# Altium schematic symbol library lib_SCH.SchLib: 57 symbols
Pins are listed as number, name and electrical type; pins without a type are passive.

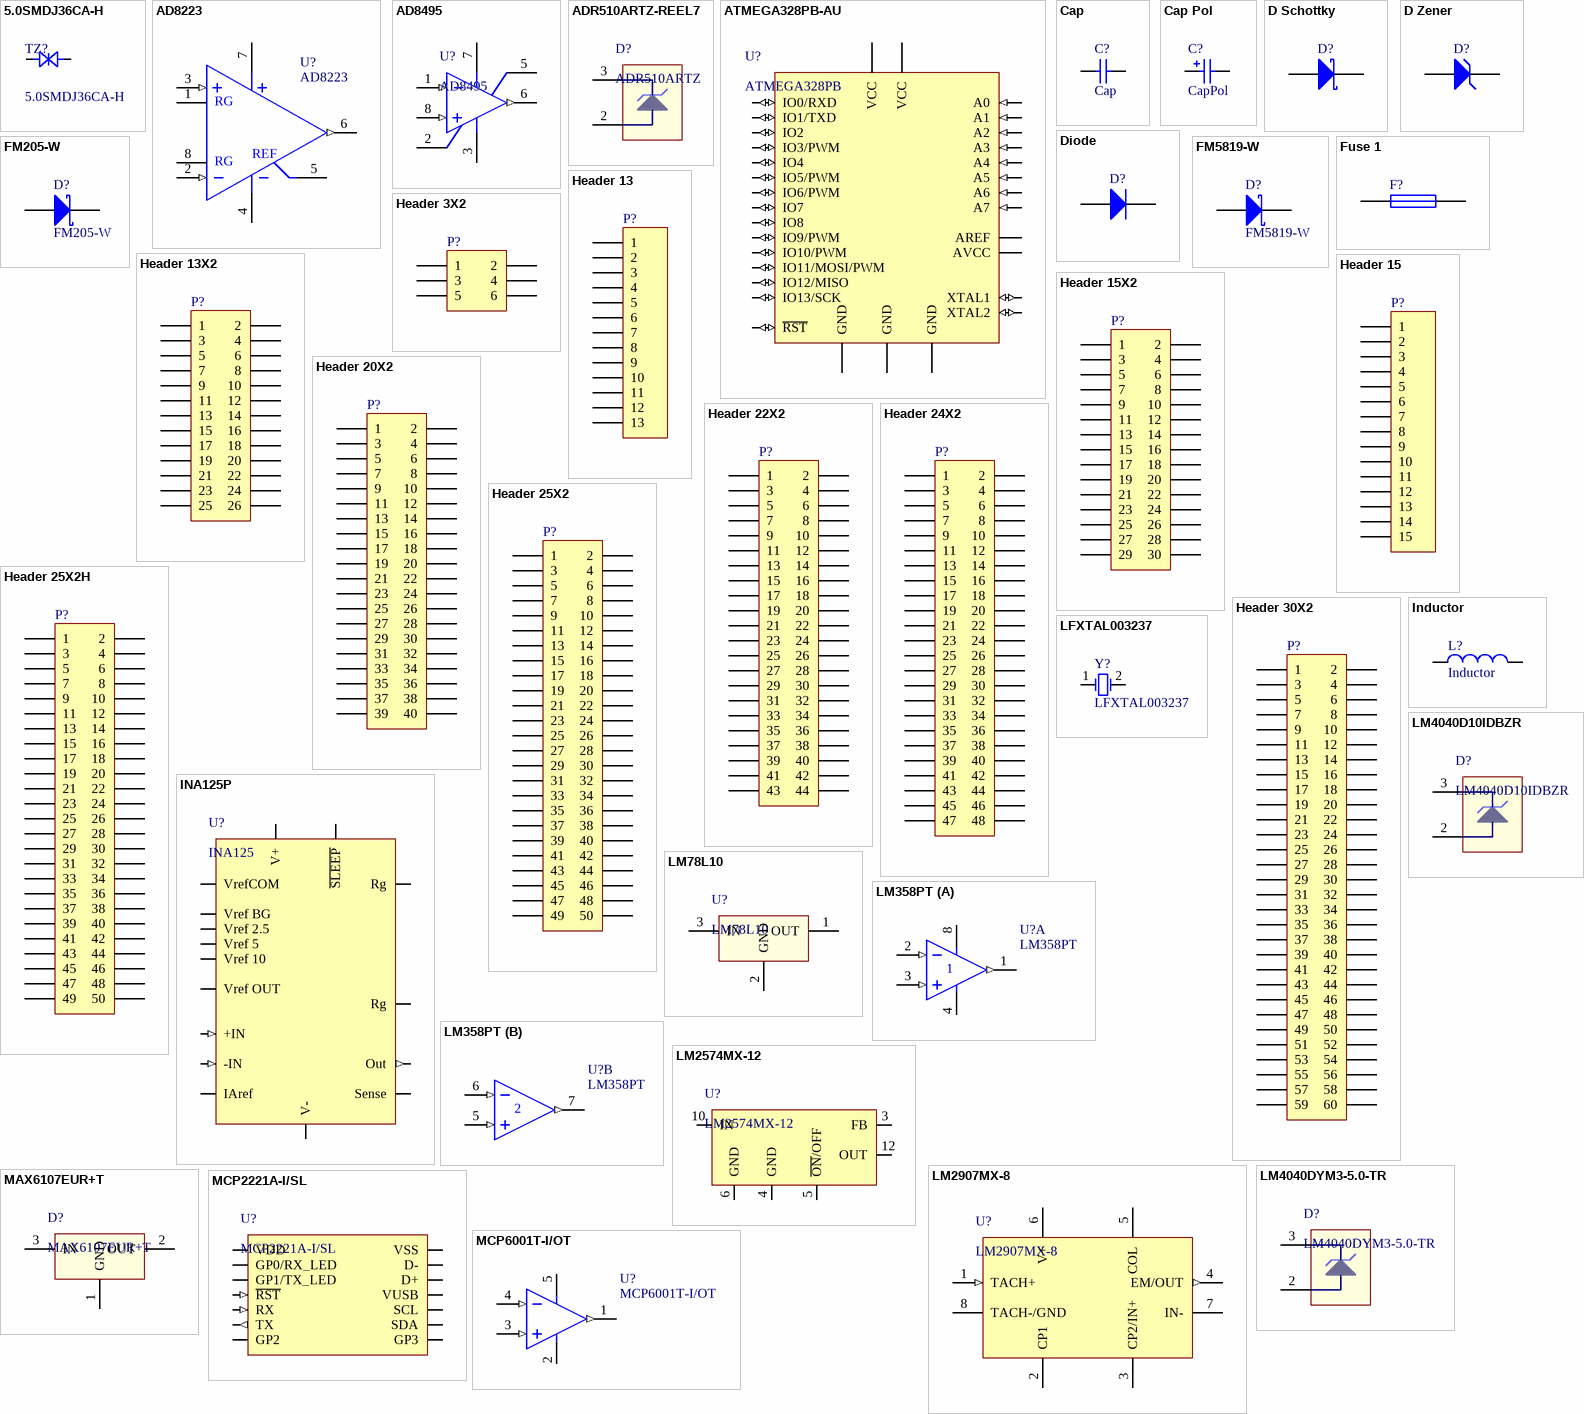
[diagram p0: symbols 5.0SMDJ36CA-H to MCP6001T-I/OT]

## 5.0SMDJ36CA-H
designator TZ?
ESD Suppressors / TVS Diodes 36V 5kW BIDIR
footprint DO-214AB; pin to pad 1>A 2>C
pins: 1 A, 2 K

## AD8223
designator U?
Precision Instrumentation Amplifier
footprint SO8_M (SOIC, 8-Leads, Body 4.9x3.9mm, Pitch 1.27mm, IPC Low Density)
pins: 1 RG, 2 IN- (in), 3 IN+ (in), 4 -Vs (power), 5 REF, 6 OUT (out), 7 +Vs (power), 8 RG

## AD8495
designator U?
Precision Type K Thermocouple Amplifier with Cold Junction Compensation
footprint RM_8
pins: 1 IN- (in), 2 REF, 3 V- (power), 5 SENSE, 6 OUT (out), 7 V+ (power), 8 IN+ (in)

## ADR510ARTZ-REEL7
designator D?, comment ADR510ARTZ
Voltage References 1.0V Prec Shunt Low Noise
footprint SOT23_M (SOT23, 3-Leads, Body 2.9x1.3mm, Pitch 0.95mm, Lead Span 2.3mm - Reverse Pinning, IPC Low Density)
pins: 2 A, 3 K

## ATMEGA328PB-AU
designator U?, comment ATMEGA328PB
8-bit AVR® RISC-based microcontroller (MCU) with picoPower® technology.
footprint QFP80P900X900X120-32N
pins: 1 IO3/PWM (io), 2 IO4 (io), 3 GND (power), 4 VCC (power), 5 GND (power), 6 VCC (power), 7 XTAL1 (io), 8 XTAL2 (io), 9 IO5/PWM (io), 10 IO6/PWM (io), 11 IO7 (io), 12 IO8 (io), 13 IO9/PWM (io), 14 IO10/PWM (io), 15 IO11/MOSI/PWM (io), 16 IO12/MISO (io), 17 IO13/SCK (io), 18 AVCC (power), 19 A6 (in), 20 AREF (power), 21 GND (power), 22 A7 (in), 23 A0 (in), 24 A1 (in), 25 A2 (in), 26 A3 (in), 27 A4 (in), 28 A5 (in), 29 ~{RST} (io), 30 IO0/RXD (io), 31 IO1/TXD (io), 32 IO2 (io)

## Cap
designator C?
Capacitor
footprint 1608[0603] (Chip Capacitor, Body 1.6x0.8mm, IPC High Density)
footprint 0402 (Chip Capacitor, Body 1.0x0.5mm, IPC High Density)
footprint C0805 (Chip Capacitor, Body 2.0x1.3mm, IPC High Density)
pins: 1, 2

## Cap Pol
designator C?, comment CapPol
Polarized Capacitor (Surface Mount)
footprint WCAP-ASLI_10x10.5 (Aluminium Electrolytic V-Chip SMT Capacitors, §¶10x10.5mm)
footprint WCAP-ASLI_6.3x5.5 (Aluminium Electrolytic V-Chip SMT Capacitors, §¶6.3x5.5mm)
footprint WCAP-ASLI_6.3x7.7 (Aluminium Electrolytic V-Chip SMT Capacitors, §¶6.3x7.7mm)
footprint WCAP-ASLI_12.5x14 (Aluminium Electrolytic V-Chip SMT Capacitors, §¶12.5x14mm)
footprint WCAP-ASLI_16x17 (Aluminium Electrolytic V-Chip SMT Capacitors, §¶16x17mm)
footprint WCAP-ASLI_6.3x6.1 (Aluminium Electrolytic V-Chip SMT Capacitors, §¶6.3x6.1mm)
footprint WCAP-ASLI_8x6.5 (Aluminium Electrolytic V-Chip SMT Capacitors, §¶8x6.5mm)
footprint WCAP-ASLI_8x10.5 (Aluminium Electrolytic V-Chip SMT Capacitors, §¶8x10.5mm)
footprint WCAP-ASLI_12.5x14 (Aluminium Electrolytic V-Chip SMT Capacitors, §¶12.5x14mm)
footprint WCAP-ASLI_16x17 (Aluminium Electrolytic V-Chip SMT Capacitors, §¶16x17mm)
pins: 1, 2
1 alternate drawing of the same symbol

## D Schottky
designator D?
Schottky Diode; Published: 8-Jun-2000; LatestRevisionDate: 17-Jul-2002; LatestRevisionNote: Re-released for DXP Platform.; PackageReference: SMB; Publisher: Altium Limited; PackageDescription: DO-214-AA/SMB; 2 C-Bend Leads; Body 5.3 x 3.6 mm, inc. leads (LxW); Code_JEDEC: DO-214-AA
footprint SMB (DO-214-AA/SMB; 2 C-Bend Leads; Body 5.3 x 3.6 mm, inc. leads (LxW))
simulation model SKYDIODE (Diode)
signal-integrity model D Schottky
footprint SOD523; pin to pad 1>2 2>1
pins: 1 A, 2 K

## D Zener
designator D?
Zener Diode; Published: 8-Jun-2000; LatestRevisionDate: 17-Jul-2002; LatestRevisionNote: Re-released for DXP Platform.; PackageReference: DIODE-0.7; Publisher: Altium Limited; PackageDescription: Diode, Thru-Hole; 2 Leads; 0.7 in Pin Spacing
footprint DIODE-0.7 (Diode, Thru-Hole; 2 Leads; 0.7 in Pin Spacing)
simulation model ZENER (Diode)
signal-integrity model D Zener
pins: 1 A, 2 K

## Diode
designator D?
Default Diode; Published: 8-Jun-2000; LatestRevisionDate: 17-Jul-2002; LatestRevisionNote: Re-released for DXP Platform.; PackageVersion: Sep-1996; PackageReference: SMC; Publisher: Altium Limited; PackageDescription: DO-214-AB/SMC; 2 C-Bend Leads; Body 7.9 x 5.9 mm, inc. leads (LxW); Code_JEDEC: DO-214-AB
footprint SMC (DO-214-AB/SMC; 2 C-Bend Leads; Body 7.9 x 5.9 mm, inc. leads (LxW))
simulation model DIODE (Diode)
signal-integrity model Diode
pins: 1 A, 2 K

## FM205-W
designator D?
Rectifiers 2A 600V SMB
footprint DO-214AA; pin to pad 1>C 2>A
pins: 1 C, 2 A

## FM5819-W
designator D?
Schottky Diodes & Rectifiers Vr/40V Io/1A T/R
footprint DO-214AC; pin to pad 1>A 2>C
pins: 1 A, 2 K

## Fuse 1
designator F?
Fuse; Published: 8-Jun-2000; LatestRevisionDate: 17-Jul-2002; LatestRevisionNote: Re-released for DXP Platform.; PackageReference: PIN-W2/E2.8; Publisher: Altium Limited; PackageDescription: Thru-Hole; 2 Leads
footprint PIN-W2/E2.8 (Thru-Hole; 2 Leads)
simulation model FUSE (Spice Subcircuit)
pins: 1, 2

## Header 3X2
designator P?
Header, 3-Pin, Dual row; LatestRevisionDate: 17-Jul-2002; LatestRevisionNote: Re-released for DXP Platform.; Publisher: Altium Limited
footprint HDR2X3 (Connector; Header; 3x2 Position)
signal-integrity model Connector
pins: 1, 2, 3, 4, 5, 6

## Header 13
designator P?
Header, 13-Pin; LatestRevisionDate: 17-Jul-2002; LatestRevisionNote: Re-released for DXP Platform.; Publisher: Altium Limited
footprint HDR1X13 (Connector; Header; 13 Position)
signal-integrity model Connector
pins: 1, 2, 3, 4, 5, 6, 7, 8, 9, 10, 11, 12, 13

## Header 13X2
designator P?
Header, 13-Pin, Dual row; LatestRevisionDate: 17-Jul-2002; LatestRevisionNote: Re-released for DXP Platform.; Publisher: Altium Limited
footprint HDR2X13 (Connector; Header; 13x2 Position)
signal-integrity model Connector
pins: 1, 2, 3, 4, 5, 6, 7, 8, 9, 10, 11, 12, 13, 14, 15, 16, 17, 18, 19, 20, 21, 22, 23, 24, 25, 26

## Header 15
designator P?
Header, 15-Pin; LatestRevisionDate: 17-Jul-2002; LatestRevisionNote: Re-released for DXP Platform.; Publisher: Altium Limited
footprint HDR1X15 (Connector; Header; 15 Position)
signal-integrity model Connector
pins: 1, 2, 3, 4, 5, 6, 7, 8, 9, 10, 11, 12, 13, 14, 15

## Header 15X2
designator P?
Header, 15-Pin, Dual row; LatestRevisionDate: 17-Jul-2002; LatestRevisionNote: Re-released for DXP Platform.; Publisher: Altium Limited
footprint HDR2X15 (Connector; Header; 15x2 Position)
signal-integrity model Connector
pins: 1, 2, 3, 4, 5, 6, 7, 8, 9, 10, 11, 12, 13, 14, 15, 16, 17, 18, 19, 20, 21, 22, 23, 24, 25, 26, 27, 28, 29, 30

## Header 20X2
designator P?
Header, 20-Pin, Dual row; LatestRevisionDate: 17-Jul-2002; LatestRevisionNote: Re-released for DXP Platform.; Publisher: Altium Limited
footprint HDR2X20 (Connector; Header; 20x2 Position)
signal-integrity model Connector
pins: 1, 2, 3, 4, 5, 6, 7, 8, 9, 10, 11, 12, 13, 14, 15, 16, 17, 18, 19, 20, 21, 22, 23, 24, 25, 26, 27, 28, 29, 30, 31, 32, 33, 34, 35, 36, 37, 38, 39, 40

## Header 22X2
designator P?
Header, 22-Pin, Dual row; LatestRevisionDate: 17-Jul-2002; LatestRevisionNote: Re-released for DXP Platform.; Publisher: Altium Limited
footprint HDR2X22 (Connector; Header; 22x2 Position)
signal-integrity model Connector
pins: 1, 2, 3, 4, 5, 6, 7, 8, 9, 10, 11, 12, 13, 14, 15, 16, 17, 18, 19, 20, 21, 22, 23, 24, 25, 26, 27, 28, 29, 30, 31, 32, 33, 34, 35, 36, 37, 38, 39, 40, 41, 42, 43, 44

## Header 24X2
designator P?
Header, 24-Pin, Dual row; LatestRevisionDate: 17-Jul-2002; LatestRevisionNote: Re-released for DXP Platform.; Publisher: Altium Limited
footprint HDR2X24 (Connector; Header; 24x2 Position)
signal-integrity model Connector
pins: 1, 2, 3, 4, 5, 6, 7, 8, 9, 10, 11, 12, 13, 14, 15, 16, 17, 18, 19, 20, 21, 22, 23, 24, 25, 26, 27, 28, 29, 30, 31, 32, 33, 34, 35, 36, 37, 38, 39, 40, 41, 42, 43, 44, 45, 46, 47, 48

## Header 25X2
designator P?
Header, 25-Pin, Dual row; LatestRevisionDate: 17-Jul-2002; LatestRevisionNote: Re-released for DXP Platform.; Publisher: Altium Limited
footprint HDR2X25 (Connector; Header; 25x2 Position)
signal-integrity model Connector
pins: 1, 2, 3, 4, 5, 6, 7, 8, 9, 10, 11, 12, 13, 14, 15, 16, 17, 18, 19, 20, 21, 22, 23, 24, 25, 26, 27, 28, 29, 30, 31, 32, 33, 34, 35, 36, 37, 38, 39, 40, 41, 42, 43, 44, 45, 46, 47, 48, 49, 50

## Header 25X2H
designator P?
Header, 25-Pin, Dual row, Right Angle; LatestRevisionDate: 17-Jul-2002; LatestRevisionNote: Re-released for DXP Platform.; Publisher: Altium Limited
footprint HDR2X25H (Connector; Header; 25x2 Position; Right Angle)
signal-integrity model Connector
pins: 1, 2, 3, 4, 5, 6, 7, 8, 9, 10, 11, 12, 13, 14, 15, 16, 17, 18, 19, 20, 21, 22, 23, 24, 25, 26, 27, 28, 29, 30, 31, 32, 33, 34, 35, 36, 37, 38, 39, 40, 41, 42, 43, 44, 45, 46, 47, 48, 49, 50

## Header 30X2
designator P?
Header, 30-Pin, Dual row; LatestRevisionDate: 17-Jul-2002; LatestRevisionNote: Re-released for DXP Platform.; Publisher: Altium Limited
footprint HDR2X30 (Connector; Header; 30x2 Position)
signal-integrity model Connector
pins: 1, 2, 3, 4, 5, 6, 7, 8, 9, 10, 11, 12, 13, 14, 15, 16, 17, 18, 19, 20, 21, 22, 23, 24, 25, 26, 27, 28, 29, 30, 31, 32, 33, 34, 35, 36, 37, 38, 39, 40, 41, 42, 43, 44, 45, 46, 47, 48, 49, 50, 51, 52, 53, 54, 55, 56, 57, 58, 59, 60

## INA125P
designator U?, comment INA125
INSTRUMENTATION AMPLIFIER With Precision Voltage Reference
footprint DIP-16 (DIP; 16 Leads; Row Spacing 7.62 mm; Pitch 2.54 mm)
pins: 1 V+ (power), 2 ~{SLEEP}, 3 V- (power), 4 Vref OUT, 5 IAref, 6 +IN (in), 7 -IN (in), 8 Rg, 9 Rg, 10 Out (out), 11 Sense, 12 VrefCOM, 13 Vref BG, 14 Vref 2.5, 15 Vref 5, 16 Vref 10

## Inductor
designator L?
Chip Inductor
footprint 6-0805_M (Chip Resistor, Body 2.0x1.2mm, IPC Low Density)
footprint SDE0805A (SMT Inductor)
footprint PF0382NL (Unshielded Drum Core - PF0382NL Series)
pins: 1, 2

## LFXTAL003237
designator Y?
Crystals 16.0MHz 13.4 x 4.9 x 4.3mm
footprint HC49/4HSMX
pins: 1 OSC1, 2 OSC2

## LM78L10
designator U?
3-TERMINAL 0.1A POSITIVE VOLTAGE REGULATOR
footprint TO-92A (TO, Flat Index; 3 In-Line, Axial Leads; Body Dia. 4.5mm; Leads 0.51 x 0.48 mm (max))
footprint SOT89M (SOT89, 3-Leads, Body 4.5x2.4 mm, Pitch 1.5mm, Lead Span 4.1mm, IPC Low Density)
pins: 1 OUT, 2 GND (power), 3 IN (power)

## LM358PT
designator U?
Operational Amplifiers - Op Amps Dual Low Power
footprint TSOP-8
part A pins: 1 OUT (out), 2 IN- (in), 3 IN+ (in), 4 Vs-, 8 Vs+
part B pins: 5 IN+ (in), 6 IN- (in), 7 OUT (out)

## LM2574MX-12
designator U?
Switching Voltage Regulators 0.5A SD VTG Reg
footprint SOIC14_N
pins: 3 FB, 4 GND (power), 5 ~{ON}/OFF (power), 6 GND (power), 10 IN (power), 12 OUT (power)

## LM2907MX-8
designator U?
Voltage to Frequency & Frequency to Voltage Frequency to Voltage Converter
footprint SO8_M (SOIC, 8-Leads, Body 4.9x3.9mm, Pitch 1.27mm, IPC Low Density)
pins: 1 TACH+ (in), 2 CP1, 3 CP2/IN+, 4 EM/OUT (out), 5 COL, 6 V+ (power), 7 IN-, 8 TACH-/GND (power)

## LM4040D10IDBZR
designator D?
Voltage References 10-V Prec Micropower Shunt 1% accuracy
footprint SOT23_M (SOT23, 3-Leads, Body 2.9x1.3mm, Pitch 0.95mm, Lead Span 2.3mm - Reverse Pinning, IPC Low Density)
pins: 1 hidden to GND, 2 A, 3 K

## LM4040DYM3-5.0-TR
designator D?
5V Precision Micropower Shunt Voltage Reference
footprint SOT23_M (SOT23, 3-Leads, Body 2.9x1.3mm, Pitch 0.95mm, Lead Span 2.3mm - Reverse Pinning, IPC Low Density)
pins: 1 hidden to GND, 2 A, 3 K

## MAX6107EUR+T
designator D?
4V5 Voltage References uPower Low-Dropout Voltage Ref
footprint SOT23_M (SOT23, 3-Leads, Body 2.9x1.3mm, Pitch 0.95mm, Lead Span 2.3mm - Reverse Pinning, IPC Low Density)
pins: 1 GND (power), 2 OUT, 3 IN (power)

## MCP2221A-I/SL
designator U?
USB Interface IC USB 2.0 to I2C Converter with GPIO
footprint SOIC14_N
pins: 1 VDD (power), 2 GP0/RX_LED (io), 3 GP1/TX_LED (io), 4 ~{RST} (in), 5 RX (in), 6 TX (out), 7 GP2 (io), 8 GP3 (io), 9 SDA (io), 10 SCL (io), 11 VUSB (power), 12 D- (io), 13 D+ (io), 14 VSS (power)

## MCP6001T-I/OT
designator U?
Operational Amplifiers - Op Amps Single 1.8V 1MHz
footprint SOT23-5 (SOT-23/SC-74A; 5 Leads; Body 3.1 x 3 mm, inc. leads (LxW max))
pins: 1 Out (out), 2 V- (power), 3 IN+ (in), 4 IN- (in), 5 V+ (power)

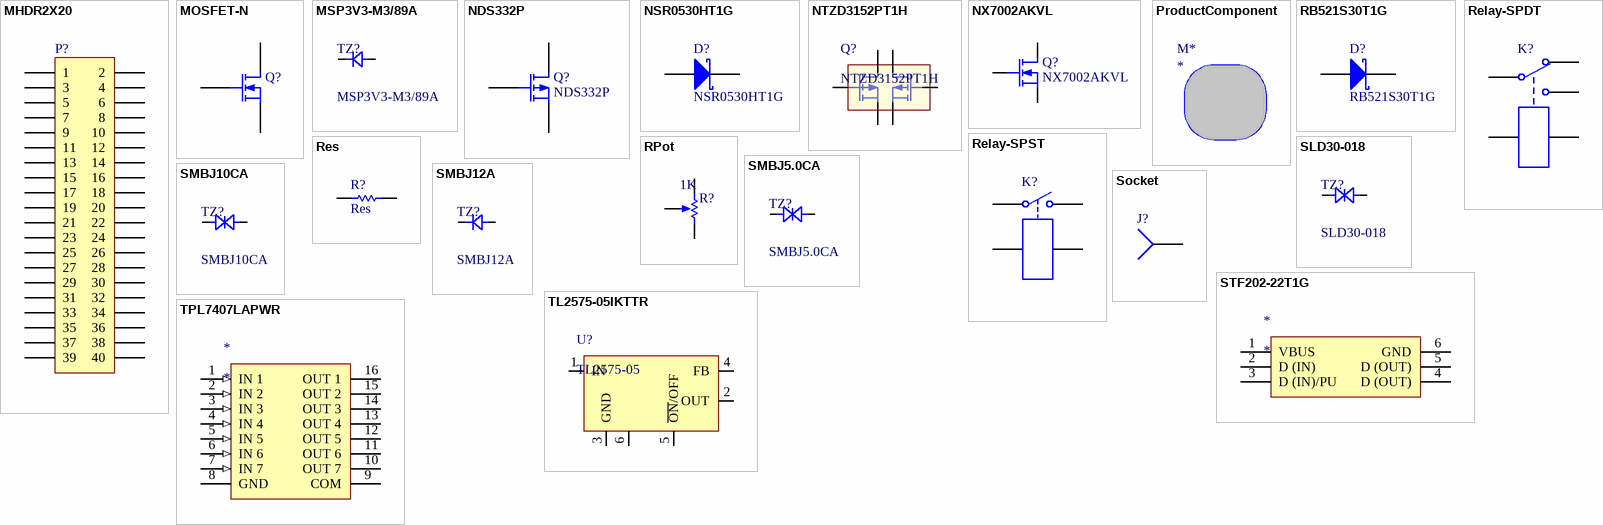
[diagram p1: symbols MHDR2X20 to TPL7407LAPWR]

## MHDR2X20
designator P?
Header, 20-Pin, Dual row; LatestRevisionDate: 17-Jul-2002; LatestRevisionNote: Re-released for DXP Platform.; Publisher: Altium Limited
footprint MHDR2X20 (Connector; Header; 20x2 Position)
signal-integrity model Connector
pins: 1, 2, 3, 4, 5, 6, 7, 8, 9, 10, 11, 12, 13, 14, 15, 16, 17, 18, 19, 20, 21, 22, 23, 24, 25, 26, 27, 28, 29, 30, 31, 32, 33, 34, 35, 36, 37, 38, 39, 40

## MOSFET-N
designator Q?
N-Channel MOSFET; Published: 8-Jun-2000; LatestRevisionDate: 17-Jul-2002; LatestRevisionNote: Re-released for DXP Platform.; PackageVersion: 1995/1996; PackageReference: E3; Publisher: Altium Limited; PackageDescription: TO, Flat Index; 3 In-Line, Axial Leads; Body Dia. 4.6mm; Lead Dia. 0.5 mm (max)
footprint E3 (TO, Flat Index; 3 In-Line, Axial Leads; Body Dia. 4.6mm; Lead Dia. 0.5 mm (max))
simulation model NMOS (MOSFET-N)
pins: 1 D, 2 G, 3 S

## MSP3V3-M3/89A
designator TZ?
ESD Suppressors / TVS Diodes 100W 3.3V Unidirect
footprint DO-219AD; pin to pad 1>A 2>C
pins: 1 A, 2 C

## NDS332P
designator Q?
P-Channel Logic Level Enhancement MOSFET
footprint SOT23_M (SOT23, 3-Leads, Body 2.9x1.3mm, Pitch 0.95mm, Lead Span 2.3mm - Reverse Pinning, IPC Low Density)
pins: 1 D, 2 S, 3 G

## NSR0530HT1G
designator D?
Schottky Diodes & Rectifiers 0.5 A 30 V SOD-323 S
footprint SOD-323; pin to pad 1>A 2>C
pins: 1 A, 2 K

## NTZD3152PT1H
designator Q?
−20 V, −430 mA, Dual P−Channel with ESD Protection, SOT−563
footprint SOT23-6_M (SOT23, 6-Leads, Body 2.9x1.6mm, Pitch 0.95mm, Lead Span 2.7mm, IPC Low Density)
pins: 1 S1, 2 G1, 3 D2, 4 S2, 5 G2, 6 D1

## NX7002AKVL
designator Q?
Small Signal MOSFET 60 V, 310 mA, Single, N−Channel, SOT−23
footprint SOT23_M (SOT23, 3-Leads, Body 2.9x1.3mm, Pitch 0.95mm, Lead Span 2.3mm - Reverse Pinning, IPC Low Density)
pins: 1 G, 2 S, 3 D

## ProductComponent
designator M*
ClassName: *; PartNumber: *; Manufacturer: *; Supplier: *

## RB521S30T1G
designator D?
Schottky Diodes & Rectifiers 30V 200mW Single
footprint SOD-523; pin to pad 1>2 2>1
pins: 1 A, 2 K

## Relay-SPDT
designator K?
Single-Pole Dual-Throw Relay; Published: 24-Mar-1999; LatestRevisionDate: 17-Jul-2002; LatestRevisionNote: Re-released for DXP Platform.; PackageReference: MODULE5B; Publisher: Altium Limited
footprint MODULE5B (DIP; 5 Round Pins; Row Space 15.24 mm; Pitch 2.54 mm)
simulation model SPDTRELAY (Spice Subcircuit)
pins: 1, 2, 3, 4, 5

## Relay-SPST
designator K?
Single-Pole Single-Throw Relay; Published: 24-Mar-1999; LatestRevisionDate: 17-Jul-2002; LatestRevisionNote: Re-released for DXP Platform.; PackageReference: MODULE4; Publisher: Altium Limited
footprint MODULE4 (DIP; 4 Round Pins; Row Space 27.94 mm; Pitch 15.24 mm)
simulation model SPSTRELAY (Spice Subcircuit)
pins: 1, 2, 3, 4

## Res
designator R?
Resistor
footprint 6-0805_M (Chip Resistor, Body 2.0x1.2mm, IPC Low Density)
footprint 0402 (Chip Capacitor, Body 1.0x0.5mm, IPC High Density)
pins: 1, 2

## RPot
designator R?  value 1K
Potentiometer; Sim Note: Enter the Resistance value and the set point into parameter fields.; Set Position: 0.5; Published: 8-Jun-2000; LatestRevisionDate: 17-Jul-2002; LatestRevisionNote: Re-released for DXP Platform.; PackageReference: VR5; Publisher: Altium Limited; PackageDescription: Variable Resistor, Thru-Hole; 3 Leads
footprint VR5 (Thru-Hole; 3 Leads)
simulation model POT (Potentiometer)
pins: 1 TOP, 2 BOT, 3 TAP
1 alternate drawing of the same symbol

## SLD30-018
designator TZ?
TVS Bi-Directional VR=30V
footprint SLD-SERIES
footprint P600
pins: 1 A, 2 K

## SMBJ5.0CA
designator TZ?
ESD Suppressors / TVS Diodes 5Vr 600W 65.3A 5% BiDirectional
footprint DO-214AA; pin to pad 1>C 2>A
pins: 1 C, 2 A

## SMBJ10CA
designator TZ?
ESD Suppressors / TVS Diodes 600W 10.0V
footprint DO-214AA; pin to pad 1>C 2>A
pins: 1 C, 2 A

## SMBJ12A
designator TZ?
ESD Suppressors / TVS Diodes 12V 600W SMB Unidirectional
footprint DO-214AA; pin to pad 1>A 2>C
pins: 1 A, 2 C

## Socket
designator J?
Socket; LatestRevisionDate: 17-Jul-2002; LatestRevisionNote: Re-released for DXP Platform.; Publisher: Altium Limited
footprint PIN1 (Connector; Socket)
signal-integrity model Connector
pins: 1

## STF202-22T1G
designator *
footprint SOP6
pins: 1 VBUS, 2 D (IN), 3 D (IN)/PU, 4 D (OUT), 5 D (OUT), 6 GND

## TL2575-05IKTTR
designator U?, comment TL2575-05
Switching Voltage Regulators 1-A Step-Down Voltage
footprint TO-263-5 (D2-PAK, 6-Pads, Body 8,9x9,9mm (max), IPC Low Density)
pins: 1 IN (power), 2 OUT (power), 3 GND (power), 4 FB, 5 ~{ON}/OFF (power), 6 GND (power)

## TPL7407LAPWR
designator *
footprint TSOP-16
pins: 1 IN 1 (in), 2 IN 2 (in), 3 IN 3 (in), 4 IN 4 (in), 5 IN 5 (in), 6 IN 6 (in), 7 IN 7 (in), 8 GND (power), 9 COM (power), 10 OUT 7, 11 OUT 6, 12 OUT 5, 13 OUT 4, 14 OUT 3, 15 OUT 2, 16 OUT 1